# Altium footprint library TC1-1-13M+.PcbLib: 1 footprints
Each footprint in its own frame and in the unit in brackets; x right, y up, seen from the top. Pads: shape width x height; smd on the part's side, far side on the other; paste and mask are expansions set on the pad; w line width, h text height; cw(c..) or ccw(c..) is an arc to the next point about the centre after c.
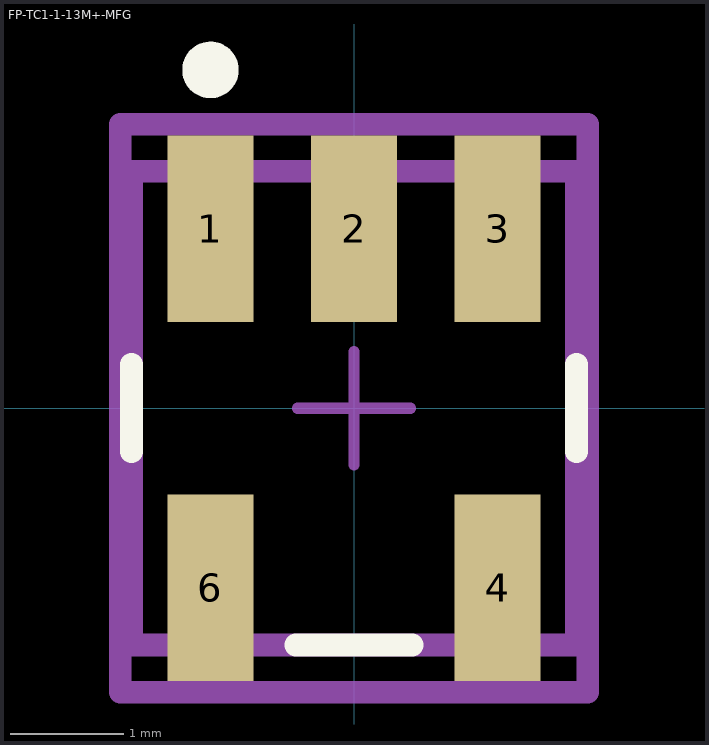
[diagram p0: the footprint, top view; thin cyan lines are the x and y axes]

## FP-TC1-1-13M+-MFG [mil]
pads (5):
  rect 30x65 smd paste+0 mask+0: 1(-50,62.5) 2(0,62.5) 3(50,62.5) 4(50,-62.5) 6(-50,-62.5)
Top Overlay:
  circle w9.84: c-50,117.81 r4.92
  lines w7.87: -77.5,-15.24 -77.5,15.24 ; -20.24,-82.5 20.24,-82.5 ; 77.5,-15.24 77.5,15.24
Top Assembly:
  lines w7.87: -81.44,-98.94 -81.44,98.94 81.44,98.94 81.44,-98.94 -81.44,-98.94
  text ".Designator" at 0,-0.03 h39.37
Top 3D Body:
  lines w7.87: -77.5,-82.5 -77.5,82.5 77.5,82.5 77.5,-82.5 -77.5,-82.5
Top Courtyard:
  lines w7.87: -81.44,-98.94 -81.44,98.94 81.44,98.94 81.44,-98.94 -81.44,-98.94
Top Component Center:
  lines w3.94: -19.68,0 19.68,0 ; 0,-19.68 0,19.68
3D body "Trans_Mini-Circuits_TC1-1-13M+_eec.STEP": height 10, standoff 0, extent -81.44,-98.94 81.44,98.94